# Altium footprint library GDT_2027SM_M.PcbLib: 1 footprints
Each footprint in its own frame and in the unit in brackets; x right, y up, seen from the top. Pads: shape width x height; smd on the part's side, far side on the other; paste and mask are expansions set on the pad; w line width, h text height; cw(c..) or ccw(c..) is an arc to the next point about the centre after c.
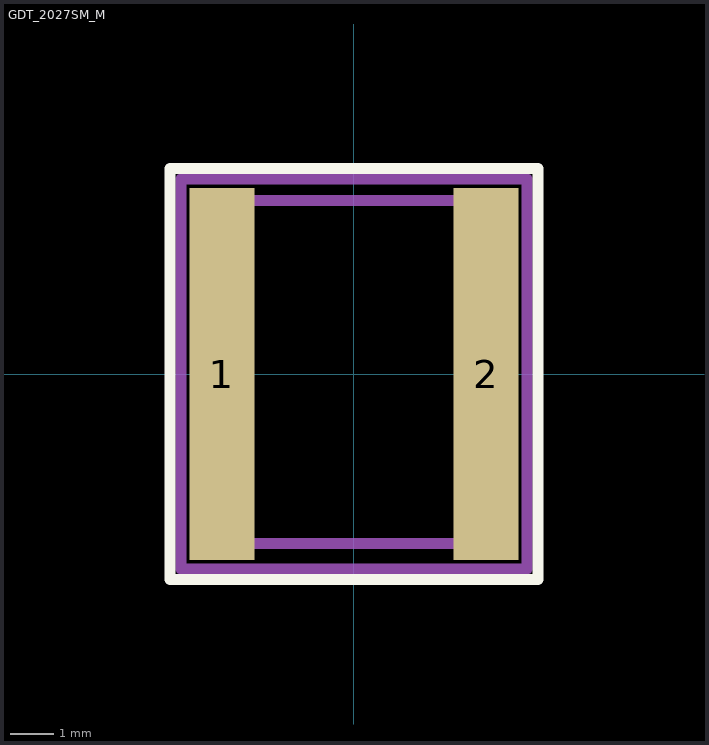
[diagram p0: the footprint, top view; thin cyan lines are the x and y axes]

## GDT_2027SM_M [mm]
pads (2):
  rect 1.5x8.6 smd: 1(-3.05,0) 2(3.05,0)
Top Overlay:
  lines w0.254: -4.25,-4.75 4.25,-4.75 4.25,4.75 -4.25,4.75 -4.25,-4.75
Mechanical 13:
  lines w0.254: -3.21,-3.917 3.21,-3.917 3.21,4.013 -3.21,4.013 -3.21,-3.917
Mechanical 15:
  lines w0.254: -4,-4.5 -4,4.5 4,4.5 4,-4.5 -4,-4.5
Mechanical 17:
  text "'.Designator'" at -2.353,-1.092 h0.38
Mechanical 19:
  text "'.Comment'" at -2.353,-1.092 h0.38
3D body "2027-xx-sm.stp": height 7.97, standoff 0.03, extent -3.21,-3.917 3.21,4.013